# Altium schematic symbol library Schlib1.SchLib: 3 symbols
Pins are listed as number, name and electrical type; pins without a type are passive.

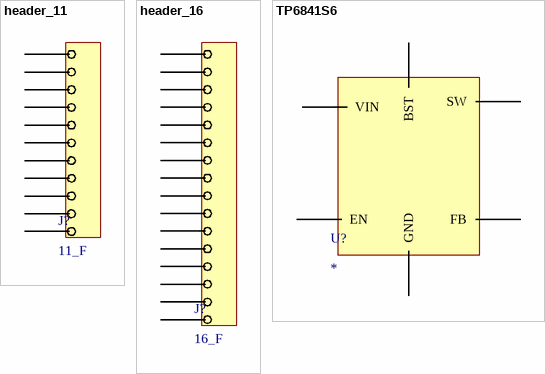
[diagram p0: symbols header_11 to TP6841S6]

## header_11
designator J?, comment 11_F
footprint header_11
pins: 7 PC6, 8 PC6, 9 PC6, 10 PC6, 11, 12 PC6, 13, 14 PC6, 15 PC6, 16 PC6, 17 PC6

## header_16
designator J?, comment 16_F
footprint haeder_16
pins: 24 PC6, 25 PC6, 26 PC6, 27 PC6, 28 PC6, 29 PC6, 30 PC6, 31 PC6, 32, 33 PC6, 34 3, 35 PC6, 36 PC6, 37 PC6, 38 PC6, 39 PC6

## TP6841S6
designator U?
footprint SOT23127P600-8N
pins: 1 BST, 2 GND, 3 FB, 4 EN, 5 VIN, 6 SW